# Altium footprint library ChipComponents.PcbLib: 44 footprints (part 1 of 3)
Each footprint in its own frame and in the unit in brackets; x right, y up, seen from the top. Pads: shape width x height; smd on the part's side, far side on the other; paste and mask are expansions set on the pad; w line width, h text height; cw(c..) or ccw(c..) is an arc to the next point about the centre after c.
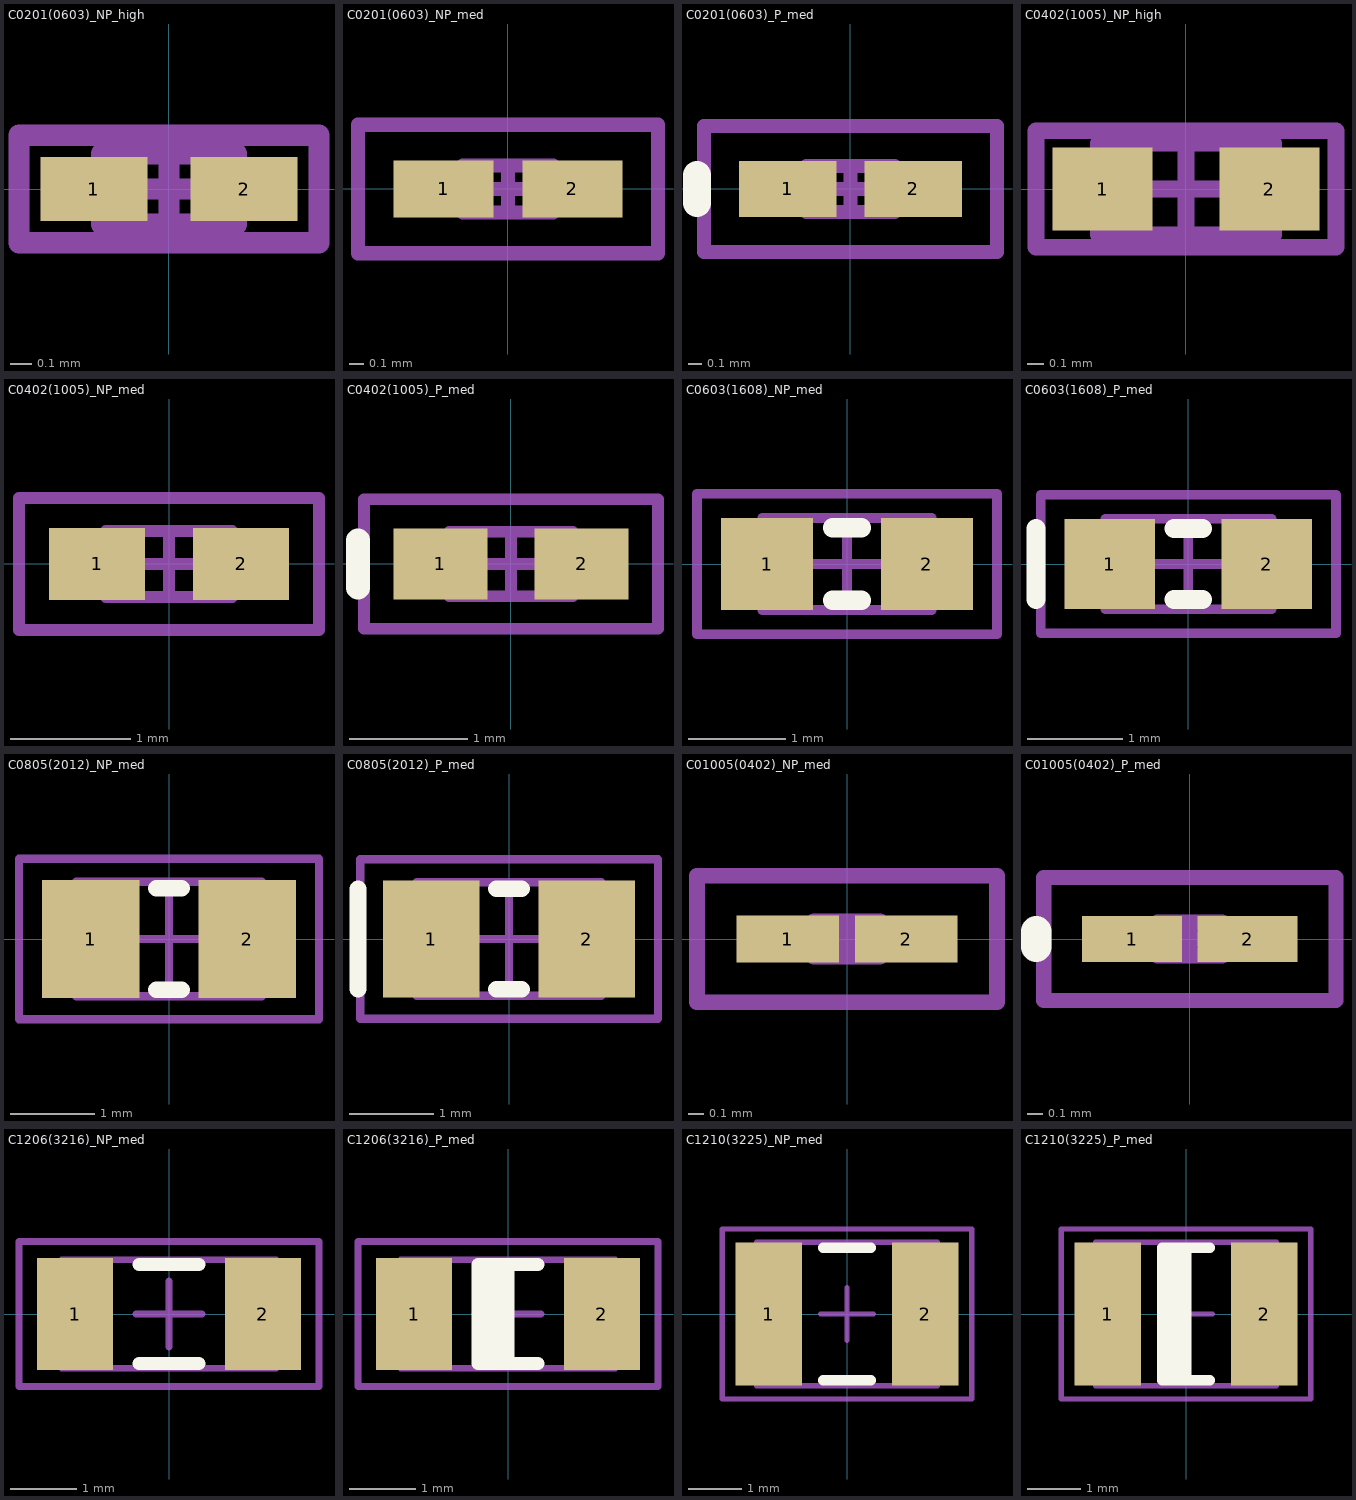
[diagram p0: the footprints below, top view; thin cyan lines are the x and y axes]

## C0201(0603)_NP_high [mm] "Chip Capacitor, 2-Leads, Body 0.6x0.3mm, IPC High Density"
height 0.33
pads (2):
  rect 0.5x0.3 smd: 1(-0.35,0) 2(0.35,0)
Mechanical 13:
  lines w0.1: -0.315,-0.165 -0.315,0.165 0.315,0.165 0.315,-0.165 -0.315,-0.165
Mechanical 15:
  lines w0.1: -0.165,0 0.165,0 ; 0,-0.165 0,0.165 ; -0.7,-0.25 -0.7,0.25 0.7,0.25 0.7,-0.25 -0.7,-0.25
3D body: height 0.33, standoff 0, extent -0.315,-0.165 0.315,0.165

## C0201(0603)_NP_med [mm] "Chip Capacitor, 2-Leads, Body 0.6x0.3mm, IPC Medium Density"
height 0.26
pads (2):
  rect 0.7x0.4 smd: 1(-0.45,0) 2(0.45,0)
Mechanical 13:
  lines w0.1: -0.315,-0.165 0.315,-0.165 0.315,0.165 -0.315,0.165 -0.315,-0.165
Mechanical 15:
  lines w0.1: -0.165,0 0.165,0 ; 0,-0.165 0,0.165 ; -1.05,-0.45 1.05,-0.45 1.05,0.45 -1.05,0.45 -1.05,-0.45
3D body: height 0.26, standoff 0, extent -0.315,-0.165 0.315,0.165

## C0201(0603)_P_med [mm] "Chip Capacitor, 2-Leads, Body 0.6x0.3mm, IPC Medium Density"
height 0.26
pads (2):
  rect 0.7x0.4 smd: 1(-0.45,0) 2(0.45,0)
Top Overlay:
  lines w0.2: -1.1,-0.1 -1.1,0.1
Mechanical 13:
  lines w0.1: -0.315,-0.165 -0.315,0.165 0.315,0.165 0.315,-0.165 -0.315,-0.165
Mechanical 15:
  lines w0.1: -0.165,0 0.165,0 ; 0,-0.165 0,0.165 ; -1.05,-0.45 -1.05,0.45 1.05,0.45 1.05,-0.45 -1.05,-0.45
3D body: height 0.26, standoff 0, extent -0.315,-0.165 0.315,0.165

## C0402(1005)_NP_high [mm] "Chip Capacitor, 2-Leads, Body 1.0x0.5mm, IPC High Density"
height 0.4
pads (2):
  rect 0.6x0.5 smd: 1(-0.5,0) 2(0.5,0)
Mechanical 13:
  lines w0.1: -0.525,-0.275 -0.525,0.275 0.525,0.275 0.525,-0.275 -0.525,-0.275
Mechanical 15:
  lines w0.1: -0.275,0 0.275,0 ; 0,-0.275 0,0.275 ; -0.9,-0.35 -0.9,0.35 0.9,0.35 0.9,-0.35 -0.9,-0.35
3D body: height 0.4, standoff 0, extent -0.525,-0.275 0.525,0.275

## C0402(1005)_NP_med [mm] "Chip Capacitor, 2-Leads, Body 1.0x0.5mm, IPC Medium Density"
height 0.4
pads (2):
  rect 0.8x0.6 smd: 1(-0.6,0) 2(0.6,0)
Mechanical 13:
  lines w0.1: -0.525,-0.275 0.525,-0.275 0.525,0.275 -0.525,0.275 -0.525,-0.275
Mechanical 15:
  lines w0.1: -0.275,0 0.275,0 ; 0,-0.275 0,0.275 ; -1.25,-0.55 1.25,-0.55 1.25,0.55 -1.25,0.55 -1.25,-0.55
3D body: height 0.4, standoff 0, extent -0.525,-0.275 0.525,0.275

## C0402(1005)_P_med [mm] "Chip Capacitor, 2-Leads, Body 1.0x0.5mm, IPC Medium Density"
height 0.4
pads (2):
  rect 0.8x0.6 smd: 1(-0.6,0) 2(0.6,0)
Top Overlay:
  lines w0.2: -1.3,-0.2 -1.3,0.2
Mechanical 13:
  lines w0.1: -0.525,-0.275 0.525,-0.275 0.525,0.275 -0.525,0.275 -0.525,-0.275
Mechanical 15:
  lines w0.1: -0.275,0 0.275,0 ; 0,-0.275 0,0.275 ; -1.25,-0.55 1.25,-0.55 1.25,0.55 -1.25,0.55 -1.25,-0.55
3D body: height 0.4, standoff 0, extent -0.525,-0.275 0.525,0.275

## C0603(1608)_NP_med [mm] "Chip Capacitor, 2-Leads, Body 1.6x0.8mm, IPC Medium Density"
height 0.55
pads (2):
  rect 0.95x0.95 smd: 1(-0.825,0) 2(0.825,0)
Top Overlay:
  lines w0.2: -0.15,-0.375 0.15,-0.375 ; -0.15,0.375 0.15,0.375
Mechanical 13:
  lines w0.1: -0.875,-0.475 0.875,-0.475 0.875,0.475 -0.875,0.475 -0.875,-0.475
Mechanical 15:
  lines w0.1: -0.475,0 0.475,0 ; 0,-0.475 0,0.475 ; -1.55,-0.725 1.55,-0.725 1.55,0.725 -1.55,0.725 -1.55,-0.725
3D body: height 0.55, standoff 0, extent -0.875,-0.475 0.875,0.475

## C0603(1608)_P_med [mm] "Chip Capacitor, 2-Leads, Body 1.6x0.8mm, IPC Medium Density"
height 0.55
pads (2):
  rect 0.95x0.95 smd: 1(-0.825,0) 2(0.825,0)
Top Overlay:
  lines w0.2: -1.6,-0.375 -1.6,0.375 ; -0.15,-0.375 0.15,-0.375 ; -0.15,0.375 0.15,0.375
Mechanical 13:
  lines w0.1: -0.875,-0.475 0.875,-0.475 0.875,0.475 -0.875,0.475 -0.875,-0.475
Mechanical 15:
  lines w0.1: -0.475,0 0.475,0 ; 0,-0.475 0,0.475 ; -1.55,-0.725 1.55,-0.725 1.55,0.725 -1.55,0.725 -1.55,-0.725
3D body: height 0.55, standoff 0, extent -0.875,-0.475 0.875,0.475

## C0805(2012)_NP_med [mm] "Chip Capacitor, 2-Leads, Body 2.0x1.3mm, IPC Medium Density"
height 0.7
pads (2):
  rect 1.15x1.4 smd: 1(-0.925,0) 2(0.925,0)
Top Overlay:
  lines w0.2: -0.15,-0.6 0.15,-0.6 ; -0.15,0.6 0.15,0.6
Mechanical 13:
  lines w0.1: -1.1,-0.675 1.1,-0.675 1.1,0.675 -1.1,0.675 -1.1,-0.675
Mechanical 15:
  lines w0.1: -0.5,0 0.5,0 ; 0,-0.5 0,0.5 ; -1.775,-0.95 1.775,-0.95 1.775,0.95 -1.775,0.95 -1.775,-0.95
3D body: height 0.7, standoff 0, extent -1.1,-0.675 1.1,0.675

## C0805(2012)_P_med [mm] "Chip Capacitor, 2-Leads, Body 2.0x1.3mm, IPC Medium Density"
height 0.7
pads (2):
  rect 1.15x1.4 smd: 1(-0.925,0) 2(0.925,0)
Top Overlay:
  lines w0.2: -1.8,-0.6 -1.8,0.6 ; -0.15,-0.6 0.15,-0.6 ; -0.15,0.6 0.15,0.6
Mechanical 13:
  lines w0.1: -1.1,-0.675 -1.1,0.675 1.1,0.675 1.1,-0.675 -1.1,-0.675
Mechanical 15:
  lines w0.1: -0.5,0 0.5,0 ; 0,-0.5 0,0.5 ; -1.775,-0.95 -1.775,0.95 1.775,0.95 1.775,-0.95 -1.775,-0.95
3D body: height 0.7, standoff 0, extent -1.1,-0.675 1.1,0.675

## C01005(0402)_NP_med [mm] "Chip Capacitor, 2-Leads, Body 0.4x0.2mm, IPC Medium Density"
height 0.15
pads (2):
  rect 0.65x0.3 smd: 1(-0.375,0) 2(0.375,0)
Mechanical 13:
  lines w0.1: -0.21,-0.11 -0.21,0.11 0.21,0.11 0.21,-0.11 -0.21,-0.11
Mechanical 15:
  lines w0.1: -0.11,0 0.11,0 ; 0,-0.11 0,0.11 ; -0.95,-0.4 -0.95,0.4 0.95,0.4 0.95,-0.4 -0.95,-0.4
3D body: height 0.15, standoff 0, extent -0.21,-0.11 0.21,0.11

## C01005(0402)_P_med [mm] "Chip Capacitor, 2-Leads, Body 0.4x0.2mm, IPC Medium Density"
height 0.15
pads (2):
  rect 0.65x0.3 smd: 1(-0.375,0) 2(0.375,0)
Top Overlay:
  lines w0.2: -1,-0.05 -1,0.05
Mechanical 13:
  lines w0.1: -0.21,-0.11 -0.21,0.11 0.21,0.11 0.21,-0.11 -0.21,-0.11
Mechanical 15:
  lines w0.1: -0.11,0 0.11,0 ; 0,-0.11 0,0.11 ; -0.95,-0.4 -0.95,0.4 0.95,0.4 0.95,-0.4 -0.95,-0.4
3D body: height 0.15, standoff 0, extent -0.21,-0.11 0.21,0.11

## C1206(3216)_NP_med [mm] "Chip Capacitor, 2-Leads, Body 3.1x1.5mm, IPC Medium Density"
height 0.7
pads (2):
  rect 1.15x1.7 smd: 1(-1.425,0) 2(1.425,0)
Top Overlay:
  lines w0.2: -0.45,-0.75 0.45,-0.75 ; -0.45,0.75 0.45,0.75
Mechanical 13:
  lines w0.1: -1.625,-0.825 1.625,-0.825 1.625,0.825 -1.625,0.825 -1.625,-0.825
Mechanical 15:
  lines w0.1: -0.5,0 0.5,0 ; 0,-0.5 0,0.5 ; -2.275,-1.1 2.275,-1.1 2.275,1.1 -2.275,1.1 -2.275,-1.1
3D body: height 0.7, standoff 0, extent -1.625,-0.825 1.625,0.825

## C1206(3216)_P_med [mm] "Chip Capacitor, 2-Leads, Body 3.1x1.5mm, IPC Medium Density"
height 0.7
pads (2):
  rect 1.15x1.7 smd: 1(-1.425,0) 2(1.425,0)
Top Overlay:
  rectangle: -0.45,-0.75 0.1,0.75
  lines w0.2: 0.45,-0.75 -0.45,-0.75 -0.45,0.75 0.45,0.75
Mechanical 13:
  lines w0.1: -1.625,-0.825 1.625,-0.825 1.625,0.825 -1.625,0.825 -1.625,-0.825
Mechanical 15:
  lines w0.1: -0.5,0 0.5,0 ; 0,-0.5 0,0.5 ; -2.275,-1.1 2.275,-1.1 2.275,1.1 -2.275,1.1 -2.275,-1.1
3D body: height 0.7, standoff 0, extent -1.625,-0.825 1.625,0.825

## C1210(3225)_NP_med [mm] "Chip Capacitor, 2-Leads, Body 3.2x2.5mm, IPC Medium Density"
height 0.7
pads (2):
  rect 1.25x2.7 smd: 1(-1.475,0) 2(1.475,0)
Top Overlay:
  lines w0.2: -0.45,-1.25 0.45,-1.25 ; -0.45,1.25 0.45,1.25
Mechanical 13:
  lines w0.1: -1.7,-1.35 -1.7,1.35 1.7,1.35 1.7,-1.35 -1.7,-1.35
Mechanical 15:
  lines w0.1: -0.5,0 0.5,0 ; 0,-0.5 0,0.5 ; -2.35,-1.6 -2.35,1.6 2.35,1.6 2.35,-1.6 -2.35,-1.6
3D body: height 0.7, standoff 0, extent -1.7,-1.35 1.7,1.35

## C1210(3225)_P_med [mm] "Chip Capacitor, 2-Leads, Body 3.2x2.5mm, IPC Medium Density"
height 0.7
pads (2):
  rect 1.25x2.7 smd: 1(-1.475,0) 2(1.475,0)
Top Overlay:
  rectangle: -0.45,-1.25 0.1,1.25
  lines w0.2: 0.45,-1.25 -0.45,-1.25 -0.45,1.25 0.45,1.25
Mechanical 13:
  lines w0.1: -1.7,-1.35 1.7,-1.35 1.7,1.35 -1.7,1.35 -1.7,-1.35
Mechanical 15:
  lines w0.1: -0.5,0 0.5,0 ; 0,-0.5 0,0.5 ; -2.35,-1.6 2.35,-1.6 2.35,1.6 -2.35,1.6 -2.35,-1.6
3D body: height 0.7, standoff 0, extent -1.7,-1.35 1.7,1.35